# Altium footprint library Special.PcbLib: 67 footprints (part 2 of 5)
Each footprint in its own frame and in the unit in brackets; x right, y up, seen from the top. Pads: shape width x height; smd on the part's side, far side on the other; paste and mask are expansions set on the pad; w line width, h text height; cw(c..) or ccw(c..) is an arc to the next point about the centre after c.
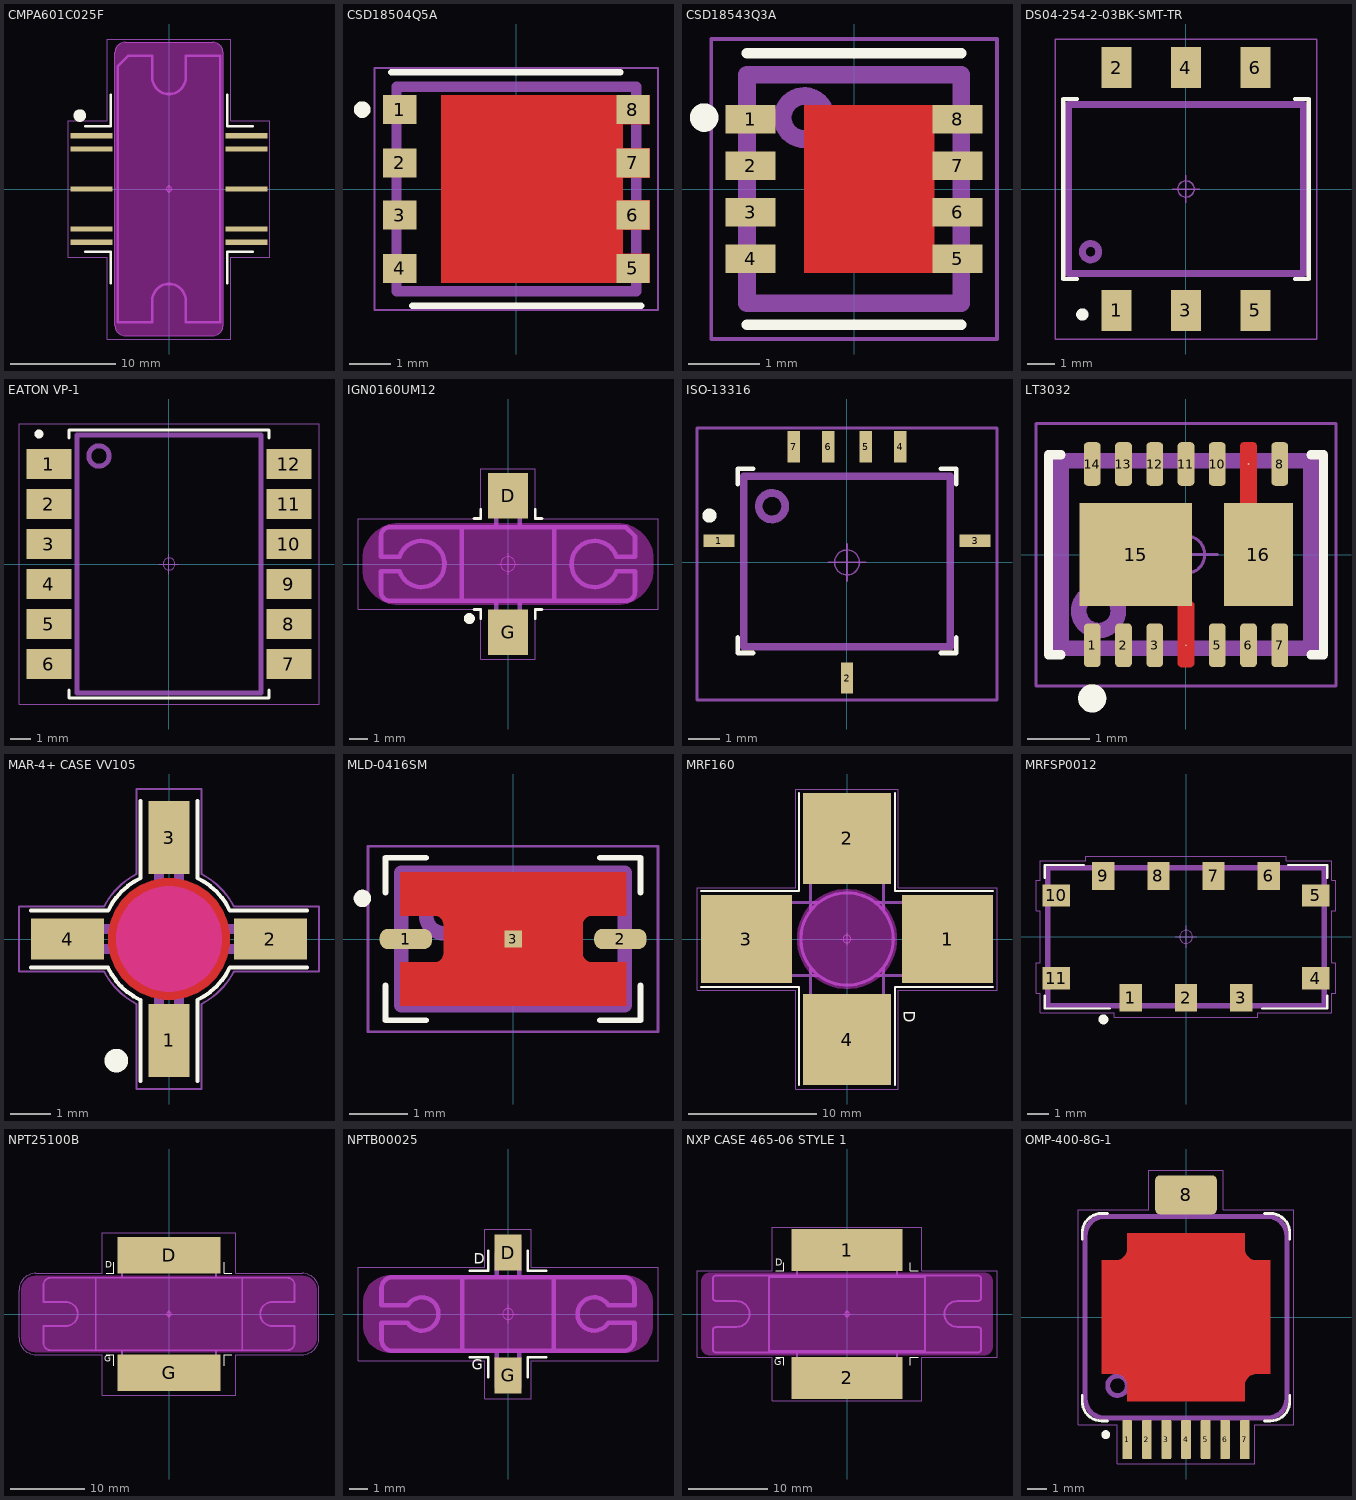
[diagram p1: the footprints below, top view; thin cyan lines are the x and y axes]

## CMPA601C025F [mm] "Flange"
height 3
pads (10):
  rect 4x0.5 smd: 1(-7.4,5.08) 2(-7.4,3.81) 3(-7.4,0) 4(-7.4,-3.81) 5(-7.4,-5.08) 6(7.4,-5.08) 7(7.4,-3.81) 8(7.4,0) 9(7.4,3.81) 10(7.4,5.08)
Top Overlay:
  circle w0.6: c-8.5,7 r0.3
  lines w0.25: -8,-6 -5.55,-6 -5.55,-9 ; -8,6 -5.55,6 -5.55,9 ; 5.55,-9 5.55,-6 8,-6 ; 5.55,9 5.55,6 8,6
Keep-Out Layer:
  board cut-out: -5.15,-13 -5.15,13 -5.15,13.098 -5.112,13.292 -5.036,13.474 -4.927,13.637 -4.787,13.777 -4.624,13.886 -4.442,13.962 -4.248,14 -4.15,14 4.15,14 4.248,14 4.442,13.962 4.624,13.886 4.787,13.777 4.927,13.637 5.036,13.474 5.112,13.292 5.15,13.098 5.15,13 5.15,-13 5.15,-13.098 5.112,-13.292 5.036,-13.474 4.927,-13.637 4.787,-13.777 4.624,-13.886 4.442,-13.962 4.248,-14 4.15,-14 -4.15,-14 -4.248,-14 -4.442,-13.962 -4.624,-13.886 -4.787,-13.777 -4.927,-13.637 -5.036,-13.474 -5.112,-13.292 -5.15,-13.098
Top Assembly:
  lines w0.25: -4.9,-12.7 -1.6,-12.7 -1.6,-10.65 cw(c0,-10.65) 1.6,-10.65 1.6,-12.7 4.9,-12.7 4.9,12.7 1.6,12.7 1.6,10.65 cw(c0,10.65) -1.6,10.65 -1.6,12.7 -3.9,12.7 -4.9,11.7 -4.9,-12.7
  text ".Designator" at -3.378,-0.339 h1.5
Board:
  lines w0.1: -5.15,-13 ccw(c-4.15,-13) -4.15,-14 4.15,-14 ccw(c4.15,-13) 5.15,-13 5.15,13 ccw(c4.15,13) 4.15,14 -4.15,14 ccw(c-4.15,13) -5.15,13 -5.15,-13
Top Courtyard:
  circle w0.05: c0,0 r0.25
  lines w0.05: -0.35,0 0.35,0 ; 0,-0.35 0,0.35 ; -9.6,-6.5 -9.6,6.5 -5.9,6.5 -5.9,14.3 5.9,14.3 5.9,6.5 9.6,6.5 9.6,-6.5 5.9,-6.5 5.9,-14.3 -5.9,-14.3 -5.9,-6.5 -9.6,-6.5
3D body "CMPA601C025F.STEP": height 2.95, standoff -1.5, extent -8.3,-12.7 8.3,12.7

## CSD18504Q5A [mm] "Texus Instruments Q5A Package"
height 1.1
pads (8):
  rect 0.8x0.7 smd: 1(-2.8,1.905) 2(-2.8,0.625) 3(-2.8,-0.625) 4(-2.8,-1.905) 5(2.8,-1.905) 6(2.8,-0.625) 7(2.8,0.625) 8(2.8,1.905)
Top Layer:
  region: 3.2,-2.25 -1.8,-2.25 -1.8,2.25 3.2,2.25 3.2,1.55 2.55,1.55 2.55,0.975 3.2,0.975 3.2,0.275 2.55,0.275 2.55,-0.275 3.2,-0.275 3.2,-0.975 2.55,-0.975 2.55,-1.55 3.2,-1.55
Top Overlay:
  circle w0.2: c-3.7,1.905 r0.1
  lines w0.15: -3,2.8 2.5,2.8 ; -2.5,-2.8 3,-2.8
Top Assembly:
  lines w0.25: -2.875,-2.45 -2.875,2.45 2.875,2.45 2.875,-2.45 -2.875,-2.45
  text ".Designator" at -2.4,-0.464 h1.5
Top Courtyard:
  circle w0.05: c0,0 r0.3
  lines w0.05: -0.5,0 0.5,0 ; 0,-0.5 0,0.5 ; -3.4,-2.9 3.4,-2.9 3.4,2.9 -3.4,2.9 -3.4,-2.9
3D body "CSD18504Q5A.STEP": height 1.1, standoff 0, extent -3.005,-2.45 3.005,2.45

## CSD18543Q3A [mm] "Texas Instruments Q3A Package"
height 0.9
pads (8):
  rect 0.7x0.4 smd: 1(-1.45,0.975) 2(-1.45,0.325) 3(-1.45,-0.325) 4(-1.45,-0.975) 5(1.45,-0.975) 6(1.45,-0.325) 7(1.45,0.325) 8(1.45,0.975)
Top Layer:
  region: 1.125,1.175 -0.7,1.175 -0.7,-1.175 1.125,-1.175
Top Overlay:
  circle w0.2: c-2.1,1 r0.1
  lines w0.15: -1.5,-1.9 1.5,-1.9 ; -1.5,1.9 1.5,1.9
Top Assembly:
  circle w0.25: c-0.7,1 r0.3
  lines w0.25: -1.5,-1.6 1.5,-1.6 1.5,1.6 -1.5,1.6 -1.5,-1.6
  text ".Designator" at -1,-0.464 h1.5
Top Courtyard:
  circle w0.05: c0,0 r0.3
  lines w0.05: -0.5,0 0.5,0 ; 0,-0.5 0,0.5 ; -2,-2.1 2,-2.1 2,2.1 -2,2.1 -2,-2.1
3D body "CSD18543Q3A.STEP": height 0.9, standoff 0, extent -1.65,-1.75 1.65,1.75

## DS04-254-2-03BK-SMT-TR [mm] "Same Sky DIP-Switch, DS04-254-SMT Series, 3 pos"
height 4.8
pads (6):
  rect 1.1x1.5 smd: 1(-2.54,-4.45) 2(-2.54,4.45) 3(0,-4.45) 4(0,4.45) 5(2.54,-4.45) 6(2.54,4.45)
Top Overlay:
  circle w0.25: c-3.8,-4.6 r0.1
  lines w0.15: -4,-3.3 -4.5,-3.3 -4.5,3.3 -4,3.3 ; 4,-3.3 4.5,-3.3 4.5,3.3 4,3.3
Top Assembly:
  circle w0.25: c-3.5,-2.3 r0.3
  lines w0.25: -4.31,-3.1 4.31,-3.1 4.31,3.1 -4.31,3.1 -4.31,-3.1
  text ".Designator" at -3.378,-0.339 h1.5
Top Courtyard:
  circle w0.05: c0,0 r0.3
  lines w0.05: -0.5,0 0.5,0 ; 0,-0.5 0,0.5 ; -4.8,-5.5 4.8,-5.5 4.8,5.5 -4.8,5.5 -4.8,-5.5
3D body "DS04-254-2-03BK-SMT-TR--3DModel-STEP-1-colors.STEP": height 4.01, standoff 0.01, extent -4.31,-4.95 4.31,4.95

## EATON VP-1 [mm] "EATON VP-1 Transformer"
height 6.2
pads (12):
  rect 2.25x1.5 smd: 1(-6,5) 2(-6,3) 3(-6,1) 4(-6,-1) 5(-6,-3) 6(-6,-5) 7(6,-5) 8(6,-3) 9(6,-1) 10(6,1) 11(6,3) 12(6,5)
Top Overlay:
  circle w0.25: c-6.5,6.5 r0.1
  lines w0.15: -5,-6.3 -5,-6.7 5,-6.7 5,-6.3 ; -5,6.3 -5,6.7 5,6.7 5,6.3
Top Assembly:
  circle w0.25: c-3.5,5.4 r0.51
  lines w0.25: -4.6,-6.45 4.6,-6.45 4.6,6.45 -4.6,6.45 -4.6,-6.45
  text ".Designator" at -3.378,-0.339 h1.5
Top Courtyard:
  circle w0.05: c0,0 r0.3
  lines w0.05: -0.5,0 0.5,0 ; 0,-0.5 0,0.5 ; -7.5,-7 7.5,-7 7.5,7 -7.5,7 -7.5,-7
3D body "User Library-COILTRONICS VP1.step": height 6.21, standoff 0.01, extent -6.5,-6.45 6.5,6.45

## IGN0160UM12 [mm] "Integra PACKAGE PL21A1"
height 1.71
pads (2):
  rect 2.2x2.5 smd: D(0,3.75) G(0,-3.75)
Top Overlay:
  circle w0.3: c-2.125,-3 r0.15
  lines w0.15: -1.875,-2.5 -1.5,-2.5 -1.5,-3 ; -1.875,2.5 -1.5,2.5 -1.5,3 ; 1.5,-3 1.5,-2.5 1.875,-2.5 ; 1.5,3 1.5,2.5 1.875,2.5
Keep-Out Layer:
  board cut-out: -8,-0.25 -8,0.25 -8,0.447 -7.923,0.834 -7.772,1.198 -7.554,1.525 -7.275,1.804 -6.947,2.023 -6.583,2.173 -6.197,2.25 -6,2.25 6,2.25 6.197,2.25 6.583,2.173 6.947,2.023 7.275,1.804 7.554,1.525 7.772,1.198 7.923,0.834 8,0.447 8,0.25 8,-0.25 8,-0.447 7.923,-0.833 7.772,-1.197 7.554,-1.525 7.275,-1.804 6.947,-2.022 6.583,-2.173 6.197,-2.25 6,-2.25 -6,-2.25 -6.197,-2.25 -6.583,-2.173 -6.947,-2.022 -7.275,-1.804 -7.554,-1.525 -7.772,-1.197 -7.923,-0.833 -8,-0.447
Top Assembly:
  lines w0.25: -5.965,-0.4 ccw(c-4.76,0) -5.965,0.402 ; -5.959,-0.4 -6.985,-0.4 -6.985,-1.53 ccw(c-6.485,-1.53) -6.485,-2.03 6.485,-2.03 ccw(c6.485,-1.53) 6.985,-1.53 6.985,-0.4 5.959,-0.4 ; -5.959,0.4 -6.985,0.4 -6.985,1.53 cw(c-6.485,1.53) -6.485,2.03 6.485,2.03 6.985,1.53 6.985,0.4 5.959,0.4 ; -2.54,-2.03 -2.54,2.03 ; -0.64,-2.03 -0.64,-4.1 0.64,-4.1 0.64,-2.03 ; -0.64,2.03 -0.64,3.428 0.032,4.1 0.64,4.1 0.64,2.03 ; 2.54,-2.03 2.54,2.03 ; 5.965,-0.402 cw(c4.76,0) 5.965,0.4
  text ".Designator" at -2.1,-0.518 h1.5
Top Courtyard:
  circle w0.05: c0,0 r0.4
  lines w0.05: -0.6,0 0.6,0 ; 0,-0.6 0,0.6 ; -8.25,-2.5 -1.5,-2.5 -1.5,-5.25 1.5,-5.25 1.5,-2.5 8.25,-2.5 8.25,2.5 1.5,2.5 1.5,5.25 -1.5,5.25 -1.5,2.5 -8.25,2.5 -8.25,-2.5
3D body "Integra Package PL21A1.STEP": height 1.71, standoff -1.57, extent -6.985,-4.065 6.985,4.065

## ISO-13316 [mm]
pads (7):
  rect 1x0.4 smd: 1(-4.1,0.7) 3(4.1,0.7)
  rect 0.4x1 smd: 2(0,-3.7) 4(1.7,3.7) 5(0.6,3.7) 6(-0.6,3.7) 7(-1.7,3.7)
Top Overlay:
  circle w0.25: c-4.4,1.5 r0.1
  lines w0.15: -3.5,-2.4 -3.5,-2.9 -3,-2.9 ; -3.5,2.5 -3.5,3 -3,3 ; 3,-2.9 3.5,-2.9 3.5,-2.4 ; 3,3 3.5,3 3.5,2.5
Top Assembly:
  circle w0.25: c-2.4,1.8 r0.424
  lines w0.25: -3.302,-2.7 3.302,-2.7 3.302,2.761 -3.302,2.761 -3.302,-2.7
  text ".Designator" at -2.8,-0.7 h1.5
Top Courtyard:
  circle w0.05: c0,0 r0.4
  lines w0.05: -0.6,0 0.6,0 ; 0,-0.6 0,0.6
  lines w0.1: -4.8,-4.4 4.8,-4.4 4.8,4.3 -4.8,4.3 -4.8,-4.4
3D body "ISO13316.STEP": height 1.6, standoff -0.05, extent -4.313,-3.637 4.303,3.843

## LT3032 [mm] "DE14MA Package 14-Lead Plastic DFN (4mm × 3mm)"
height 0.8
pads (16):
  rrect50% 0.27x0.7 smd: 1(-1.5,-1.45) 2(-1,-1.45) 3(-0.5,-1.45) 5(0.5,-1.45) 6(1,-1.45) 7(1.5,-1.45) 8(1.5,1.45) 10(0.5,1.45) 11(0,1.45) 12(-0.5,1.45) 13(-1,1.45) 14(-1.5,1.45)
  round 0.025 smd: 4(0,-1.45) 9(1,1.45)
  rect 1.8x1.65 smd: 15(-0.8,0)
  rect 1.1x1.65 smd: 16(1.16,0)
Top Layer:
  region: 1.135,1.732 1.135,0.825 0.865,0.825 0.865,1.733 0.865,1.746 0.875,1.771 0.894,1.79 0.919,1.8 0.932,1.8 1.068,1.8 1.081,1.8 1.106,1.79 1.125,1.771 1.135,1.746
  region: -0.135,-1.733 -0.135,-0.75 0.1,-0.75 0.135,-0.785 0.135,-1.733 0.135,-1.746 0.125,-1.771 0.106,-1.79 0.081,-1.8 0.067,-1.8 0.068,-1.8 -0.068,-1.8 -0.081,-1.8 -0.106,-1.79 -0.125,-1.771 -0.135,-1.746
Top Overlay:
  circle w0.25: c-1.5,-2.3 r0.1
  lines w0.15: -2,-1.6 -2.2,-1.6 -2.2,1.6 -2,1.6 ; 2,-1.6 2.2,-1.6 2.2,1.6 2,1.6
Top Assembly:
  circle w0.25: c-1.4,-0.9 r0.316
  lines w0.25: -2,-1.5 2,-1.5 2,1.5 -2,1.5 -2,-1.5
  text ".Designator" at -3.378,-0.339 h1.5
Top Courtyard:
  circle w0.05: c0,0 r0.3
  lines w0.05: -0.5,0 0.5,0 ; 0,-0.5 0,0.5 ; -2.4,-2.1 2.4,-2.1 2.4,2.1 -2.4,2.1 -2.4,-2.1
3D body "LT3032.STEP": height 0.8, standoff 0, extent -2,-1.55 2,1.55

## MAR-4+ CASE VV105 [mm] "Mini-Circuits CASE VV105"
height 1
pads (4):
  rect 1x1.8 smd: 1(0,-2.5) 3(0,2.5)
  rect 1.8x1 smd: 2(2.5,0) 4(-2.5,0)
Top Layer:
  pour cut-out: 0,-1.5 -0.148,-1.5 -0.438,-1.442 -0.711,-1.329 -0.956,-1.165 -1.165,-0.956 -1.329,-0.711 -1.442,-0.438 -1.5,-0.148 -1.5,0 -1.5,0.148 -1.442,0.438 -1.329,0.711 -1.165,0.956 -0.956,1.165 -0.711,1.329 -0.438,1.442 -0.148,1.5 0,1.5 0.148,1.5 0.438,1.442 0.711,1.329 0.956,1.165 1.165,0.956 1.329,0.711 1.442,0.438 1.5,0.148 1.5,0 1.5,-0.148 1.442,-0.438 1.329,-0.711 1.165,-0.956 0.956,-1.165 0.711,-1.329 0.438,-1.442 0.148,-1.5
Top Overlay:
  circle w0.3: c-1.3,-3 r0.141
  lines w0.1: -3.4,-0.7 -1.508,-0.7 ; -3.4,0.7 -1.5,0.7 cw(c0,0) -0.7,1.5 -0.7,3.4 ; -1.508,-0.704 ccw(c0,0) -0.704,-1.508 ; -0.7,-3.5 -0.7,-1.508 ; 0.7,-3.5 0.7,-1.5 ccw(c0,0) 1.5,-0.7 3.4,-0.7 ; 0.7,3.4 0.7,1.5 cw(c0,0) 1.5,0.7 3.4,0.7
Keep-Out Layer:
  board cut-out: 0,-1.3 -0.128,-1.3 -0.379,-1.25 -0.616,-1.152 -0.829,-1.01 -1.01,-0.829 -1.152,-0.616 -1.25,-0.379 -1.3,-0.128 -1.3,0 -1.3,0.128 -1.25,0.379 -1.152,0.616 -1.01,0.829 -0.829,1.01 -0.616,1.152 -0.379,1.25 -0.128,1.3 0,1.3 0.128,1.3 0.379,1.25 0.616,1.152 0.829,1.01 1.01,0.829 1.152,0.616 1.25,0.379 1.3,0.128 1.3,0 1.3,-0.128 1.25,-0.379 1.152,-0.616 1.01,-0.829 0.829,-1.01 0.616,-1.152 0.379,-1.25 0.128,-1.3
Top Assembly:
  circle w0.25: c0,-0.75 r0.1
  circle w0.25: c0,0 r1.1
  lines w0.25: -1.075,-0.25 -3.2,-0.25 -3.2,0.25 -1.075,0.25 ; -0.25,-1.075 -0.25,-2.7 0.25,-3.2 0.25,-1.075 ; -0.25,1.075 -0.25,3.2 0.25,3.2 0.25,1.075 ; 1.075,-0.25 3.2,-0.25 3.2,0.25 1.075,0.25
  text ".Designator" at 0.9,1.3 h1.5
Top Courtyard:
  circle w0.05: c0,0 r0.3
  lines w0.05: -0.5,0 0.5,0 ; 0,-0.5 0,0.5 ; -3.7,-0.8 -1.6,-0.8 ccw(c0,0) -0.8,-1.6 -0.8,-3.7 0.8,-3.7 0.8,-1.6 ccw(c0,0) 1.6,-0.8 3.7,-0.8 3.7,0.8 1.6,0.8 ccw(c0,0) 0.8,1.6 0.8,3.7 -0.8,3.7 -0.8,1.6 ccw(c0,0) -1.6,0.8 -3.7,0.8 -3.7,-0.8
3D body "MAR-4+ CASE VV105.STEP": height 1, standoff -0.5, extent -3.15,-3.15 3.15,3.15

## MLD-0416SM [mm] "Marki SMT (0.152” x 0.090” x 0.045”)"
height 1.27
pads (3):
  rrect80% 0.9x0.35 smd: 1(-1.85,0) 2(1.85,0)
  rect 0.3x0.3 smd: 3(0,0)
Top Layer:
  region: -1.95,-1.15 1.95,-1.15 1.95,-0.4 1.35,-0.4 1.321,-0.397 1.267,-0.375 1.225,-0.333 1.203,-0.279 1.2,-0.25 1.2,0.25 1.203,0.279 1.225,0.333 1.267,0.375 1.321,0.397 1.35,0.4 1.95,0.4 1.95,1.15 -1.95,1.15 -1.95,0.4 -1.35,0.4 -1.321,0.397 -1.267,0.375 -1.225,0.333 -1.203,0.279 -1.2,0.25 -1.2,-0.25 -1.203,-0.279 -1.225,-0.333 -1.267,-0.375 -1.321,-0.397 -1.35,-0.4 -1.95,-0.4
Top Overlay:
  circle w0.15: c-2.6,0.7 r0.075
  lines w0.1: -2.2,-0.8 -2.2,-1.4 -1.5,-1.4 ; -2.2,0.8 -2.2,1.4 -1.5,1.4 ; 1.5,-1.4 2.2,-1.4 2.2,-0.8 ; 1.5,1.4 2.2,1.4 2.2,0.8
Top Assembly:
  circle w0.25: c-1.2,0.4 r0.3
  lines w0.25: -1.93,-1.145 -1.93,1.145 1.93,1.145 1.93,-1.145 -1.93,-1.145
  text ".Designator" at -2.2,1.6 h1.5
Top Courtyard:
  circle w0.05: c0,0 r0.3
  lines w0.05: -0.5,0 0.5,0 ; 0,-0.5 0,0.5 ; -2.5,-1.6 2.5,-1.6 2.5,1.6 -2.5,1.6 -2.5,-1.6
3D body "MLD-0416SM.STEP": height 1.27, standoff 0, extent -1.93,-1.145 1.93,1.145

## MRF160 [mm] "MACOM Power FET CASE 249-06"
height 1.8
pads (4):
  rect 7.1x6.9 smd: 1(7.85,0) 3(-7.85,0)
  rect 6.9x7.1 smd: 2(0,7.85) 4(0,-7.85)
Top Overlay:
  lines w0.15: -11.375,-3.75 -3.75,-3.75 -3.75,-11.375 ; -11.375,3.75 -3.75,3.75 -3.75,11.375 ; 3.75,-11.375 3.75,-3.75 11.375,-3.75 ; 3.75,11.375 3.75,3.75 11.375,3.75
  text "D" at 4.1,-5.6 h1.5
Keep-Out Layer:
  board cut-out: 0,-3.9 -0.256,-3.9 -0.762,-3.833 -1.256,-3.701 -1.729,-3.505 -2.171,-3.25 -2.577,-2.938 -2.938,-2.577 -3.25,-2.171 -3.505,-1.729 -3.701,-1.256 -3.833,-0.762 -3.9,-0.256 -3.9,0 -3.9,0.256 -3.833,0.762 -3.701,1.256 -3.505,1.729 -3.25,2.171 -2.938,2.577 -2.577,2.938 -2.171,3.25 -1.729,3.505 -1.256,3.701 -0.762,3.833 -0.256,3.9 0,3.9 0.256,3.9 0.762,3.833 1.256,3.701 1.729,3.505 2.171,3.25 2.577,2.938 2.938,2.577 3.25,2.171 3.505,1.729 3.701,1.256 3.833,0.762 3.9,0.256 3.9,0 3.9,-0.256 3.833,-0.762 3.701,-1.256 3.505,-1.729 3.25,-2.171 2.938,-2.577 2.577,-2.938 2.171,-3.25 1.729,-3.505 1.256,-3.701 0.762,-3.833 0.256,-3.9
Top Assembly:
  circle w0.25: c0,0 r3.6
  lines w0.25: -2.85,-2.199 -2.85,-11.05 2.85,-11.05 2.85,-2.199 ; -2.85,2.199 -2.85,11.05 2.85,11.05 2.85,2.199 ; -2.199,-2.85 -11.05,-2.85 -11.05,2.85 -2.199,2.85 ; 2.199,-2.85 11.05,-2.85 11.05,2.85 2.199,2.85
  text "D" at -0.3,-6.9 h1
Top Courtyard:
  circle w0.05: c0,0 r0.3
  lines w0.05: -0.5,0 0.5,0 ; 0,-0.5 0,0.5 ; -11.7,-4 -11.7,4 -4,4 -4,11.7 4,11.7 4,4 11.7,4 11.7,-4 4,-4 4,-11.7 -4,-11.7 -4,-4 -11.7,-4
3D body "CASE 249-06 ISSUE H.STEP": height 1.92, standoff -1.53, extent -11.05,-11.05 11.05,11.05

## MRFSP0012 [mm] "MRFSP0012 Packadge S25"
height 1.8
pads (11):
  rect 1.02x1.27 smd: 1(-2.54,-2.8) 2(0,-2.8) 3(2.54,-2.8) 6(3.81,2.8) 7(1.27,2.8) 8(-1.27,2.8) 9(-3.81,2.8)
  rect 1.27x1.02 smd: 4(5.97,-1.905) 5(5.97,1.905) 10(-5.97,1.905) 11(-5.97,-1.905)
Top Overlay:
  circle w0.25: c-3.8,-3.8 r0.1
  lines w0.1: -6.5,-2.7 -6.5,-3.3 -3.5,-3.3 ; -6.5,2.7 -6.5,3.3 -4.7,3.3 ; 3.5,-3.3 6.5,-3.3 6.5,-2.7 ; 4.7,3.3 6.5,3.3 6.5,2.7
Top Assembly:
  lines w0.25: -6.35,-3.175 6.35,-3.175 6.35,3.175 -6.35,3.175 -6.35,-3.175
  text ".Designator" at -3.5,-0.3 h1.5
Top Courtyard:
  circle w0.05: c0,0 r0.3
  lines w0.05: -0.5,0 0.5,0 ; 0,-0.5 0,0.5 ; -6.9,-2.6 -6.7,-2.6 -6.7,-3.5 -3.3,-3.5 -3.3,-3.7 3.3,-3.7 3.3,-3.5 6.7,-3.5 6.7,-2.6 6.9,-2.6 6.9,-1.2 6.7,-1.2 6.7,1.2 6.9,1.2 6.9,2.6 6.7,2.6 6.7,3.5 4.6,3.5 4.6,3.7 -4.6,3.7 -4.6,3.5 -6.7,3.5 -6.7,2.6 -6.9,2.6 -6.9,1.2 -6.7,1.2 -6.7,-1.2 -6.9,-1.2 -6.9,-2.6
3D body "MRFSP0012.STEP": height 1.78, standoff 0, extent -6.35,-3.175 6.35,3.175

## NPT25100B [mm] "MACOM Flange Ceramic"
height 3.6
pads (2):
  rect 14x5 smd: D(0,7.95) G(0,-7.95)
Top Overlay:
  lines w0.15: -8.5,-5.5 -7.5,-5.5 -7.5,-7 ; -8.5,5.5 -7.5,5.5 -7.5,7 ; 7.5,-7 7.5,-5.5 8.5,-5.5 ; 7.5,7 7.5,5.5 8.5,5.5
  text "G" at -8.744,-6.78 h1.5
  text "D" at -8.597,5.92 h1.5
Keep-Out Layer:
  board cut-out: -20,-3.2 -20,3.2 -20,3.397 -19.923,3.783 -19.772,4.147 -19.554,4.475 -19.275,4.754 -18.947,4.972 -18.583,5.123 -18.197,5.2 -18,5.2 18,5.2 18.197,5.2 18.583,5.123 18.947,4.972 19.275,4.754 19.554,4.475 19.772,4.147 19.923,3.783 20,3.397 20,3.2 20,-3.2 20,-3.397 19.923,-3.783 19.772,-4.147 19.554,-4.475 19.275,-4.754 18.947,-4.972 18.583,-5.123 18.197,-5.2 18,-5.2 -18,-5.2 -18.197,-5.2 -18.583,-5.123 -18.947,-4.972 -19.275,-4.754 -19.554,-4.475 -19.772,-4.147 -19.923,-3.783 -20,-3.397
Top Assembly:
  lines w0.25: -9.91,-4.9 -9.91,4.9 ; -6.35,-4.9 -6.35,-9.715 6.35,-9.715 6.35,-4.9 ; -6.35,4.9 -6.35,6.995 -3.63,9.715 6.35,9.715 6.35,4.9 ; 9.91,-4.9 9.91,4.9 ; 13.97,-1.625 cw(c13.97,0) 13.97,1.625 ; 13.97,-1.625 cw(c13.97,0) 13.97,1.625 ; 13.97,-1.625 17,-1.625 ; 13.97,-1.625 17,-1.625 ; 13.97,1.625 17,1.625 ; 13.97,1.625 17,1.625 ; 17,-1.625 17,-3.9 cw(c16,-3.9) 16,-4.9 -16,-4.9 cw(c-16,-3.9) -17,-3.9 -17,-1.625 -13.97,-1.625 ccw(c-13.97,0) -13.97,1.625 -17,1.625 -17,3.9 cw(c-16,3.9) -16,4.9 16,4.9 cw(c16,3.9) 17,3.9 17,1.625
  text ".Designator" at -3.378,-0.339 h1.5
  text "G" at -5.844,-6.28 h1.5
  text "D" at -5.697,5.92 h1.5
Top Courtyard:
  circle w0.05: c0,0 r0.3
  lines w0.05: -0.5,0 0.5,0 ; 0,-0.5 0,0.5 ; -20.3,-3.2 ccw(c-18,-3.2) -18,-5.5 -9,-5.5 -9,-11 9,-11 9,-5.5 18,-5.5 ccw(c18,-3.2) 20.3,-3.2 20.3,3.2 ccw(c18,3.2) 18,5.5 9,5.5 9,11 -9,11 -9,5.5 -18,5.5 ccw(c-18,3.2) -20.3,3.2 -20.3,-3.2
3D body "NPT25100B.STEP": height 2.03, standoff -1.57, extent -17.02,-9.715 17.02,9.715

## NPTB00025 [mm] "M/A-COM NPTB00025 case AC200B-2"
height 1.5
pads (2):
  rect 1.5x2 smd: D(0,3.4) G(0,-3.4)
Top Overlay:
  lines w0.15: -2.1,-2.4 -1.1,-2.4 -1.1,-3.5 ; -2.1,2.4 -1.1,2.4 -1.1,3.5 ; 1.1,-3.5 1.1,-2.4 2.1,-2.4 ; 1.1,3.5 1.1,2.4 2.1,2.4
  text "D" at -1.9,2.6 h1
  text "G" at -2,-3.289 h1
Keep-Out Layer:
  board cut-out: -8,-0.65 -8,0.65 -8,0.798 -7.942,1.088 -7.829,1.361 -7.665,1.606 -7.456,1.815 -7.211,1.979 -6.938,2.092 -6.648,2.15 -6.5,2.15 6.5,2.15 6.648,2.15 6.938,2.092 7.211,1.979 7.456,1.815 7.665,1.606 7.829,1.361 7.942,1.088 8,0.798 8,0.65 8,-0.65 8,-0.798 7.942,-1.088 7.829,-1.361 7.665,-1.606 7.456,-1.815 7.211,-1.979 6.938,-2.092 6.648,-2.15 6.5,-2.15 -6.5,-2.15 -6.648,-2.15 -6.938,-2.092 -7.211,-1.979 -7.456,-1.815 -7.665,-1.606 -7.829,-1.361 -7.942,-1.088 -8,-0.798
Top Assembly:
  lines w0.25: -5.549,-0.495 -7,-0.485 -7,-1.43 ccw(c-6.4,-1.43) -6.4,-2.03 6.4,-2.03 ccw(c6.4,-1.43) 7,-1.43 7,-0.485 5.549,-0.495 ; -5.549,-0.494 ccw(c-4.77,0) -5.493,0.572 ; -5.549,0.495 -7,0.485 -7,1.43 cw(c-6.4,1.43) -6.4,2.03 6.4,2.03 cw(c6.4,1.43) 7,1.43 7,0.485 5.549,0.495 ; -2.54,-2.03 -2.54,2.03 ; -0.635,-2.03 -0.635,-4.065 0.635,-4.065 0.635,-2.03 ; -0.635,2.03 -0.635,3.365 0.065,4.065 0.635,4.065 0.635,2.03 ; 2.54,-2.03 2.54,2.03 ; 5.493,-0.572 cw(c4.77,0) 5.549,0.494
  text "D" at -0.375,2.325 h1.5
  text "G" at -0.45,-3.408 h1.5
  text ".Designator" at -2.2,-0.418 h1.5
Top Courtyard:
  circle w0.05: c0,0 r0.3
  lines w0.05: -0.5,0 0.5,0 ; 0,-0.5 0,0.5 ; -8.3,-2.6 -1.3,-2.6 -1.3,-4.7 1.3,-4.7 1.3,-2.6 8.3,-2.6 8.3,2.6 1.3,2.6 1.3,4.7 -1.3,4.7 -1.3,2.6 -8.3,2.6 -8.3,-2.6
3D body "NPTB00025.STEP": height 1.54, standoff -1.56, extent -6.985,-4.065 6.985,4.065

## NXP CASE 465-06 STYLE 1 [mm] "NXP Flange with screws"
height 2.85
pads (2):
  rect 14x5.3 smd: 1(0,8.1) 2(0,-8.1)
Top Overlay:
  lines w0.15: -9,-5.5 -8,-5.5 -8,-6.5 ; -9,5.5 -8,5.5 -8,6.5 ; 8,-6.5 8,-5.5 9,-5.5 ; 8,6.5 8,5.5 9,5.5
  text "G" at -9.191,-6.78 h1.5
  text "D" at -9.097,5.82 h1.5
Keep-Out Layer:
  board cut-out: -18.45,-4.2 -18.45,4.2 -18.45,4.299 -18.412,4.492 -18.336,4.674 -18.227,4.838 -18.087,4.977 -17.924,5.086 -17.742,5.162 -17.548,5.2 -17.45,5.2 17.45,5.2 17.548,5.2 17.742,5.162 17.924,5.086 18.087,4.977 18.227,4.838 18.336,4.674 18.412,4.492 18.45,4.299 18.45,4.2 18.45,-4.2 18.45,-4.298 18.412,-4.492 18.336,-4.674 18.227,-4.837 18.087,-4.977 17.924,-5.086 17.742,-5.162 17.548,-5.2 17.45,-5.2 -17.45,-5.2 -17.548,-5.2 -17.742,-5.162 -17.924,-5.086 -18.087,-4.977 -18.227,-4.837 -18.336,-4.674 -18.412,-4.492 -18.45,-4.298
Top Assembly:
  lines w0.25: -16.5,-1.628 -13.97,-1.628 ccw(c-13.97,0) -13.97,1.627 -16.5,1.627 cw(c-16.5,2.127) -17,2.127 -17,4.4 cw(c-16.5,4.4) -16.5,4.9 16.5,4.9 cw(c16.5,4.4) 17,4.4 17,2.127 cw(c16.5,2.127) 16.5,1.627 13.97,1.627 ccw(c13.97,0) 13.97,-1.628 16.5,-1.628 ; -16.5,-1.627 ccw(c-16.5,-2.127) -17,-2.127 -17,-4.4 ccw(c-16.5,-4.4) -16.5,-4.9 16.5,-4.9 ccw(c16.5,-4.4) 17,-4.4 17,-2.127 ccw(c16.5,-2.127) 16.5,-1.627 ; -6.35,-4.9 -6.35,-9.715 6.35,-9.715 6.35,-4.9 ; -6.35,4.9 -6.35,7.15 -3.785,9.715 6.35,9.715 6.35,4.9 ; -9.9,-4.7 9.9,-4.7 9.9,4.7 -9.9,4.7 -9.9,-4.7
  text "G" at -0.444,-6.18 h1.5
  text "D" at -0.397,5.22 h1.5
  text ".Designator" at -3.378,-0.339 h1.5
Top Courtyard:
  circle w0.05: c0,0 r0.3
  lines w0.05: -0.5,0 0.5,0 ; 0,-0.5 0,0.5 ; -19,-5.5 -19,5.5 -9.5,5.5 -9.5,11 9.5,11 9.5,5.5 19,5.5 19,-5.5 9.5,-5.5 9.5,-11 -9.5,-11 -9.5,-5.5 -19,-5.5
3D body "CASE 465-06 STYLE 1.STEP": height 2.17, standoff -1.58, extent -17.018,-9.715 17.017,9.715

## OMP-400-8G-1 [mm] "AMPLEON OMP-400-8G-1 Gull Wing 10.3X10.3X4.0mm"
height 4
pads (9):
  rrect25% 0.5x2 smd: 1(-3,-6.25) 2(-2,-6.25) 3(-1,-6.25) 4(0,-6.25) 5(1,-6.25) 6(2,-6.25) 7(3,-6.25)
  rrect25% 3.15x2 smd: 8(0,6.25)
  round 0.025 smd: 9(0,0)
Top Layer:
  region: -3,4.3 -3,3.5 -3.001,3.461 -3.012,3.383 -3.032,3.307 -3.062,3.235 -3.101,3.167 -3.149,3.104 -3.204,3.049 -3.267,3.001 -3.335,2.962 -3.407,2.932 -3.483,2.912 -3.561,2.901 -3.6,2.9 -4.3,2.9 -4.3,-2.9 -3.6,-2.9 -3.561,-2.901 -3.483,-2.912 -3.407,-2.932 -3.335,-2.962 -3.267,-3.001 -3.204,-3.049 -3.149,-3.104 -3.101,-3.167 -3.062,-3.235 -3.032,-3.307 -3.012,-3.383 -3.001,-3.461 -3,-3.5 -3,-4.3 3,-4.3 3,-3.5 3.001,-3.461 3.012,-3.383 3.032,-3.307 3.062,-3.235 3.101,-3.167 3.149,-3.104 3.204,-3.049 3.267,-3.001 3.335,-2.962 3.407,-2.932 3.483,-2.912 3.561,-2.901 3.6,-2.9 4.3,-2.9 4.3,2.9 3.6,2.9 3.561,2.901 3.483,2.912 3.407,2.932 3.335,2.962 3.267,3.001 3.204,3.049 3.149,3.104 3.101,3.167 3.062,3.235 3.032,3.307 3.012,3.383 3.001,3.461 3,3.5 3,4.3
Top Overlay:
  circle w0.25: c-4.1,-6 r0.1
  lines w0.15: -5.3,-4.309 ccw(c-4.309,-4.309) -4.309,-5.3 -4,-5.3 ; -5.3,-4.3 -5.3,-4 ; -5.3,4 -5.3,4.3 ; -5.3,4.309 cw(c-4.309,4.309) -4.309,5.3 -4,5.3 ; 4,-5.3 4.309,-5.3 ccw(c4.309,-4.309) 5.3,-4.309 ; 4,5.3 4.309,5.3 cw(c4.309,4.309) 5.3,4.309 ; 5.3,-4.3 5.3,-4 ; 5.3,4 5.3,4.3
Top Assembly:
  circle w0.25: c-3.5,-3.5 r0.5
  lines w0.25: -5.15,-4.15 ccw(c-4.15,-4.15) -4.15,-5.15 4.15,-5.15 ccw(c4.15,-4.15) 5.15,-4.15 5.15,4.15 ccw(c4.15,4.15) 4.15,5.15 -4.15,5.15 ccw(c-4.15,4.15) -5.15,4.15 -5.15,-4.15
  text ".Designator" at -3.378,-0.339 h1.5
Top Courtyard:
  circle w0.05: c0,0 r0.3
  lines w0.05: -0.5,0 0.5,0 ; 0,-0.5 0,0.5 ; -5.5,-5.5 -5.5,5.5 -1.9,5.5 -1.9,7.5 1.9,7.5 1.9,5.5 5.5,5.5 5.5,-5.5 3.5,-5.5 3.5,-7.5 -3.5,-7.5 -3.5,-5.5 -5.5,-5.5
3D body "AMPLEON OMP-400-8G-1.STEP": height 3.92, standoff 0, extent -5.21,-6.75 5.21,6.75